# Altium schematic symbol library TjsADLib.SchLib: 48 symbols
Pins are listed as number, name and electrical type; pins without a type are passive.

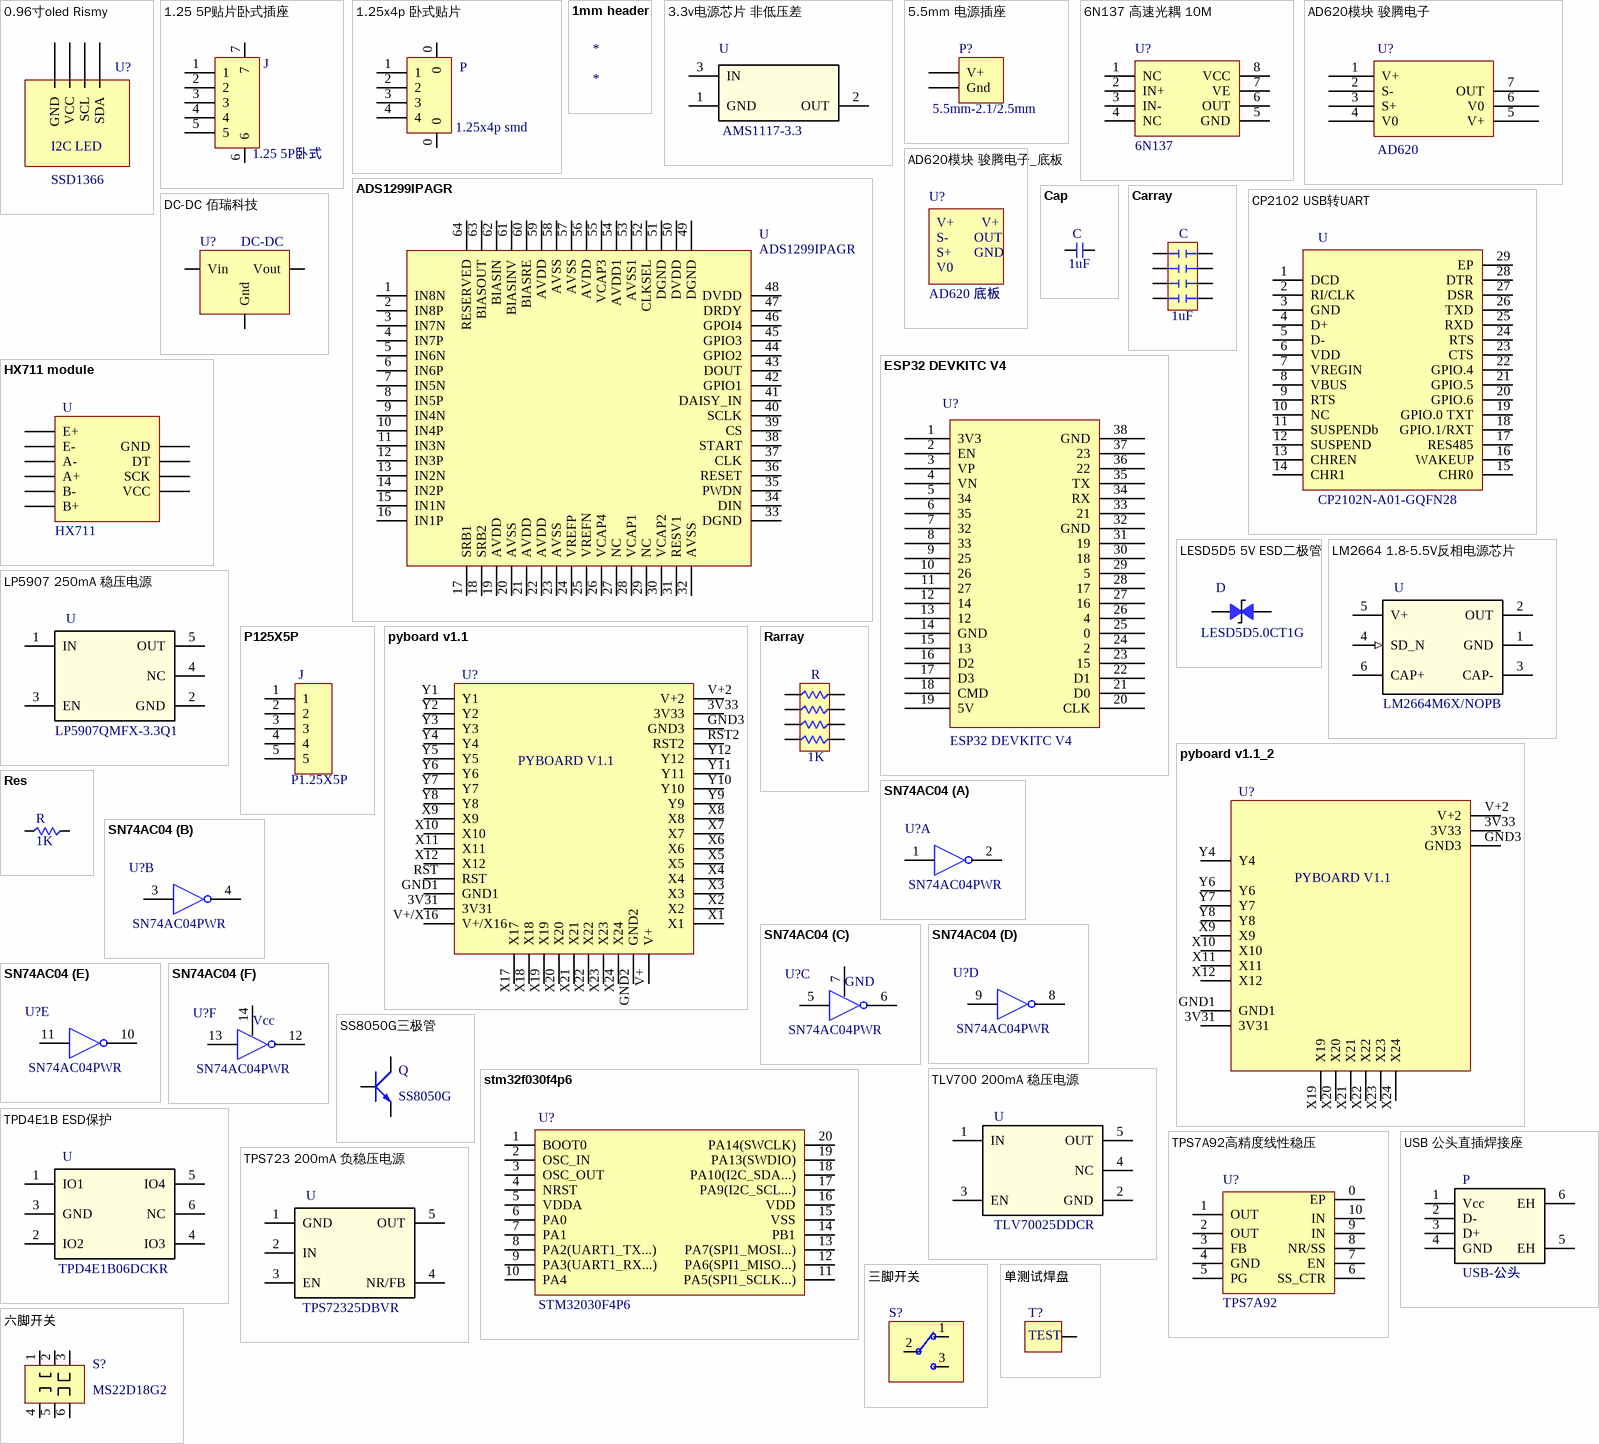
[diagram p0: symbols 0.96寸oled Rismy to 单测试焊盘]

## 0.96寸oled Rismy
designator U?, comment SSD1366
footprint 96OLED RISMY
pins: GND, SCL, SDA, VCC
text: I2C LED

## 1.25 5P贴片卧式插座
designator J, comment 1.25 5P卧式
footprint MX1.25 5P
pins: 1, 2, 3, 4, 5, 6, 7

## 1.25x4p 卧式贴片
designator P, comment 1.25x4p smd
pins: 0, 0, 1, 2, 3, 4

## 1mm header
designator *

## 3.3v电源芯片 非低压差
designator U, comment AMS1117-3.3
1A 电源芯片
footprint LC-SOT-223
pins: 1 GND (power), 2 OUT (power), 3 IN (power)

## 5.5mm 电源插座
designator P?, comment 5.5mm-2.1/2.5mm
5.5-2.1/2.5插座
footprint 5.5-2.1/2.5 DC power
pins: 3 Gnd, 4 V+

## 6N137 高速光耦 10M
designator U?, comment 6N137
footprint LC-DIP-8
pins: 1 NC, 2 IN+, 3 IN-, 4 NC, 5 GND, 6 OUT, 7 VE, 8 VCC

## AD620模块 骏腾电子
designator U?, comment AD620
pins: 1 V+, 2 S-, 3 S+, 4 V0, 5 V+, 6 V0, 7 OUT

## AD620模块 骏腾电子_底板
designator U?, comment AD620 底板
footprint AD620 junteng
text: V+; S-; OUT; S+; GND; V0

## ADS1299IPAGR
designator U
8通道EEG芯片
footprint LC-TQFP-64_10x10x05P
pins: 1 IN8N, 2 IN8P, 3 IN7N, 4 IN7P, 5 IN6N, 6 IN6P, 7 IN5N, 8 IN5P, 9 IN4N, 10 IN4P, 11 IN3N, 12 IN3P, 13 IN2N, 14 IN2P, 15 IN1N, 16 IN1P, 17 SRB1, 18 SRB2, 19 AVDD, 20 AVSS, 21 AVDD, 22 AVDD, 23 AVSS, 24 VREFP, 25 VREFN, 26 VCAP4, 27 NC, 28 VCAP1, 29 NC, 30 VCAP2, 31 RESV1, 32 AVSS, 33 DGND, 34 DIN, 35 PWDN, 36 RESET, 37 CLK, 38 START, 39 CS, 40 SCLK, 41 DAISY_IN, 42 GPIO1, 43 DOUT, 44 GPIO2, 45 GPIO3, 46 GPOI4, 47 DRDY, 48 DVDD, 49 DGND, 50 DVDD, 51 DGND, 52 CLKSEL, 53 AVSS1, 54 AVDD1, 55 VCAP3, 56 AVDD, 57 AVSS, 58 AVSS, 59 AVDD, 60 BIASRE, 61 BIASINV, 62 BIASIN, 63 BIASOUT, 64 RESERVED

## Cap
designator C, comment 1uF
贴片电容
footprint LC-0201_C
footprint LC-0402_C
footprint LC-0603_C
footprint LC-1206_C
footprint cap1206slot
pins: 1, 2

## Carray
designator C, comment 1uF
排容
footprint LC-0603_Cx4
pins: 1, 2, 3, 4, 5, 6, 7, 8

## CP2102 USB转UART
designator U, comment CP2102N-A01-GQFN28
USB转UART
footprint QFN-28_5X505P
pins: 1 DCD, 2 RI/CLK, 3 GND, 4 D+, 5 D-, 6 VDD, 7 VREGIN, 8 VBUS, 9 RTS, 10 NC, 11 SUSPENDb, 12 SUSPEND, 13 CHREN, 14 CHR1, 15 CHR0, 16 WAKEUP, 17 RES485, 18 GPIO.1/RXT, 19 GPIO.0 TXT, 20 GPIO.6, 21 GPIO.5, 22 GPIO.4, 23 CTS, 24 RTS, 25 RXD, 26 TXD, 27 DSR, 28 DTR, 29 EP

## DC-DC 佰瑞科技
designator U?, comment DC-DC
佰瑞科技 IN<52V, OUT 3.3/5/9/12
footprint bairui DC-DC
footprint bairui DC-DC - SMD
pins: 2 Vin, 3 Gnd, 4 Vout

## ESP32 DEVKITC V4
designator U?
footprint ESP32 DEVKITC V4
pins: 1 3V3, 2 EN, 3 VP, 4 VN, 5 34, 6 35, 7 32, 8 33, 9 25, 10 26, 11 27, 12 14, 13 12, 14 GND, 15 13, 16 D2, 17 D3, 18 CMD, 19 5V, 20 CLK, 21 D0, 22 D1, 23 15, 24 2, 25 0, 26 4, 27 16, 28 17, 29 5, 30 18, 31 19, 32 GND, 33 21, 34 RX, 35 TX, 36 22, 37 23, 38 GND

## HX711 module
designator U, comment HX711
footprint HX711 module
footprint HX711 SMD
pins: A+, A-, B+, B-, DT, E+, E-, GND, SCK, VCC

## LESD5D5 5V ESD二极管
designator D, comment LESD5D5.0CT1G
5V反向击穿 ESD保护
footprint SOD-523
pins: 1, 2

## LM2664 1.8-5.5V反相电源芯片
designator U, comment LM2664M6X/NOPB
40mA 1.8-5.5V反相电源
footprint SOT-23-6
footprint LC-SOT-23-6
pins: 1 GND (power), 2 OUT (power), 3 CAP- (power), 4 SD_N (in), 5 V+ (power), 6 CAP+ (power)

## LP5907 250mA 稳压电源
designator U, comment LP5907QMFX-3.3Q1
250mA
footprint SOT-23-5
footprint LC-SOT-23-5
pins: 1 IN (power), 2 GND (power), 3 EN (power), 4 NC (power), 5 OUT (power)

## P125X5P
designator J, comment P1.25X5P
footprint P1.25x5
pins: 1, 2, 3, 4, 5

## pyboard v1.1
designator U?  (value not drawn)
footprint PYBOARD V1.1 DIP
footprint PYBOARD V1.1 SMD
pins: 3V31, 3V33, GND1, GND2, GND3, RST, RST2, V+, V+2, V+/X16, X1, X2, X3, X4, X5, X6, X7, X8, X9, X10, X11, X12, X17, X18, X19, X20, X21, X22, X23, X24, Y1, Y2, Y3, Y4, Y5, Y6, Y7, Y8, Y9, Y10, Y11, Y12
text: PYBOARD V1.1

## pyboard v1.1_2
designator U?  (value not drawn)
footprint PYBOARD V1.1 DIP
footprint PYBOARD V1.1 SMD
footprint PYBOARD V1.1 DIP_2
pins: 3V31, 3V33, GND1, GND3, V+2, X9, X10, X11, X12, X19, X20, X21, X22, X23, X24, Y4, Y6, Y7, Y8
text: PYBOARD V1.1

## Rarray
designator R, comment 1K
贴片排阻
footprint LC-0603_Rx4
footprint R0402x4
footprint LC-0402_Rx4
pins: 1, 2, 3, 4, 5, 6, 7, 8

## Res
designator R, comment 1K
贴片电阻
footprint LC-0402_R
footprint LC-0603_R
footprint LC-0201_R
pins: 1, 2

## SN74AC04
designator U?, comment SN74AC04PWR
多路反相器
footprint LC-TSSOP-14
part A pins: 1, 2
part B pins: 3, 4
part C pins: 5, 6, 7 GND
part D pins: 8, 9
part E pins: 10, 11
part F pins: 12, 13, 14 VCC
part F text: Vcc

## SS8050G三极管
designator Q, comment SS8050G
三极管
footprint SOT-23-3
footprint LC-SOT-23(SOT-23-3)
pins: 1, 2, 3

## stm32f030f4p6
designator U?, comment STM32030F4P6
footprint LC-TSSOP-20
pins: 1 BOOT0, 2 OSC_IN, 3 OSC_OUT, 4 NRST, 5 VDDA, 6 PA0, 7 PA1, 8 PA2(UART1_TX...), 9 PA3(UART1_RX...), 10 PA4, 11 PA5(SPI1_SCLK...), 12 PA6(SPI1_MISO...), 13 PA7(SPI1_MOSI...), 14 PB1, 15 VSS, 16 VDD, 17 PA9(I2C_SCL...), 18 PA10(I2C_SDA...), 19 PA13(SWDIO), 20 PA14(SWCLK)

## TLV700 200mA 稳压电源
designator U, comment TLV70025DDCR
200mA稳压电源
footprint SOT-23-5
footprint LC-SOT-23-5
pins: 1 IN (power), 2 GND (power), 3 EN (power), 4 NC (power), 5 OUT (power)

## TPD4E1B ESD保护
designator U, comment TPD4E1B06DCKR
4通道高速ESD保护
footprint SC70-6
footprint LC-SC-70-6(SOT-363)
pins: 1 IO1 (power), 2 IO2 (power), 3 GND (power), 4 IO3 (power), 5 IO4 (power), 6 NC (power)

## TPS7A92高精度线性稳压
designator U?, comment TPS7A92
1% 2A
footprint LC-WSON-10_2.5x2.5mm
pins: 0 EP, 1 OUT, 2 OUT, 3 FB, 4 GND, 5 PG, 6 SS_CTR, 7 EN, 8 NR/SS, 9 IN, 10 IN

## TPS723 200mA 负稳压电源
designator U, comment TPS72325DBVR
200mA 稳压电源
footprint SOT-23-5
footprint LC-SOT-23-5
pins: 1 GND (power), 2 IN (power), 3 EN (power), 4 NR/FB (power), 5 OUT (power)

## USB 公头直插焊接座
designator P, comment USB-公头
footprint USB MALE1
pins: 1 Vcc (power), 2 D- (power), 3 D+ (power), 4 GND (power), 5 EH (power), 6 EH (power)

## 三脚开关
designator S?  (value not drawn)
footprint SS12D10 1A
pins: 1, 2, 3

## 六脚开关
designator S?, comment MS22D18G2
六脚拨动开关
footprint SW-TH_MSS22D18GX
pins: 1, 2, 3, 4, 5, 6

## 单测试焊盘
designator T?  (value not drawn)
单测试焊盘
footprint SINGLE-PAD
footprint SINGLE-PAD-SMD
pins: 1
text: TEST

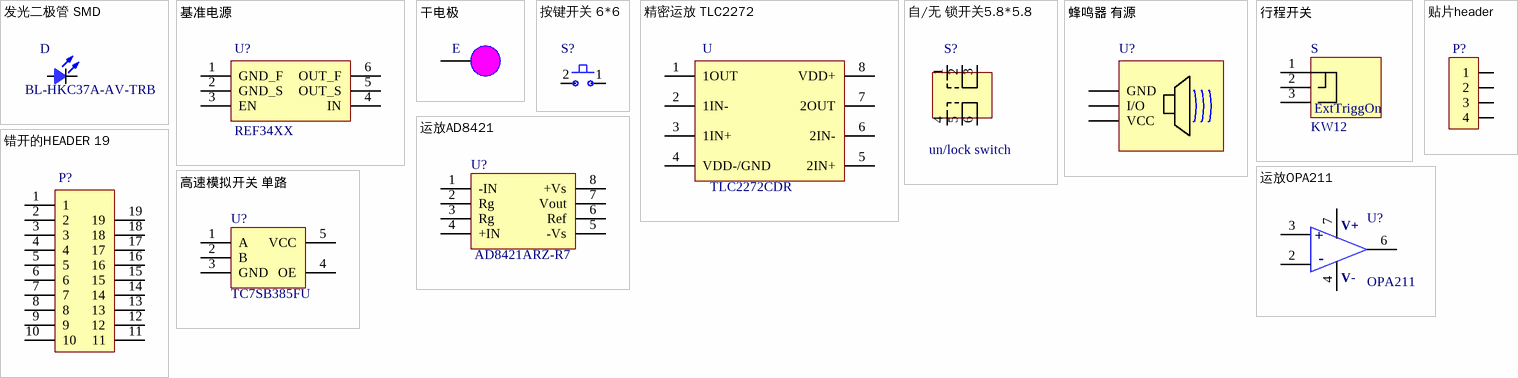
[diagram p1: symbols 发光二极管 SMD to 高速模拟开关 单路]

## 发光二极管 SMD
designator D, comment BL-HKC37A-AV-TRB
蓝色发光二极管
footprint 0402_LED
footprint 0603_LED
footprint LC-0402-LED
pins: A, K

## 基准电源
designator U?, comment REF34XX
基准电源 REF3425/30/33/40/50
footprint LC-SOT-23-6
pins: 1 GND_F, 2 GND_S, 3 EN, 4 IN, 5 OUT_S, 6 OUT_F

## 干电极
designator E  (value not drawn)
footprint Electrode 10-12mm
footprint Electrode 10mm
pins: 1

## 按键开关 6*6
designator S?  (value not drawn)
footprint SWITCH_6*6
pins: 1, 2

## 精密运放 TLC2272
designator U, comment TLC2272CDR
精密双通道运放
footprint LC-SOIC-8_150mil
pins: 1 1OUT, 2 1IN-, 3 1IN+, 4 VDD-/GND, 5 2IN+, 6 2IN-, 7 2OUT, 8 VDD+

## 自/无 锁开关5.8*5.8
designator S?, comment un/lock switch
footprint un-lock switch
pins: 1, 2, 3, 4, 5, 6

## 蜂鸣器 有源
designator U?  (value not drawn)
footprint BEEP
pins: GND, I/O, VCC

## 行程开关
designator S, comment KW12
行程开关
footprint switch_p
footprint switch_p_MIRROR
pins: 1, 2, 3
text: ExtTriggOn

## 贴片header
designator P?, comment SMD Header  (value not drawn)
贴片式header
footprint SMD-HEADER_X4
pins: 1, 2, 3, 4

## 运放AD8421
designator U?, comment AD8421ARZ-R7
GAIN=1+9.9K/Rg
footprint LC-SOIC-8_150mil
pins: 1 -IN, 2 Rg, 3 Rg, 4 +IN, 5 -Vs, 6 Ref, 7 Vout, 8 +Vs

## 运放OPA211
designator U?, comment OPA211
高精度运放
footprint LC-SOIC-8_150mil
footprint LC-VSSOP-8_3x3x065P
pins: 2 -IN, 3 +IN, 4 V-, 6 OUT, 7 V+
text: +; -

## 错开的HEADER 19
designator P?, comment CROSS-HEADER19  (value not drawn)
交错的header
footprint CROSS-HEADER19
pins: 1, 2, 3, 4, 5, 6, 7, 8, 9, 10, 11, 12, 13, 14, 15, 16, 17, 18, 19

## 高速模拟开关 单路
designator U?, comment TC7SB385FU
高速模拟开关
footprint LC-SSOP-5-P-0.65A
pins: 1 A, 2 B, 3 GND, 4 OE, 5 VCC